# EAGLE library part CPL-TRS-74LVC1T45 (library TinWhiskers)
Transceiver: Supply Translator (Logic); Package: SOT-363; Datasheet: http://www.nxp.com/documents/data_sheet/74LVC_LVCH1T45.pdf
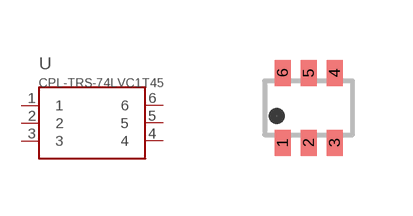
[diagram p26: symbol with the pads of SOT-363; footprint SOT-363]

Designator prefix U

## CPL-TRS-74LVC1T45  [SOT-363]
1  1
2  2
3  3
4  4
5  5
6  6

## Footprint SOT-363 (pad centres in mm)
SOT-363
smd 0.4 x 0.65: 1 -0.65,-0.875; 2 0,-0.875; 3 0.65,-0.875; 4 0.65,0.875; 5 0,0.875; 6 -0.65,0.875